# EAGLE library part ATMEGA-8 (library chuong)
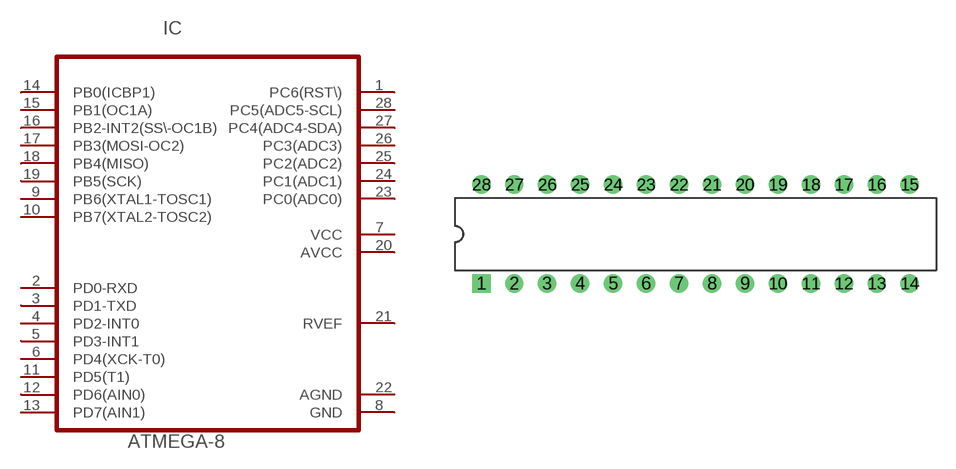
[diagram p87: symbol with the pads of DIP-28-H; footprint DIP-28-H]

Designator prefix IC

## ATMEGA-8  [DIP-28-H]
1  PC6(RST\)
2  PD0-RXD
3  PD1-TXD
4  PD2-INT0
5  PD3-INT1
6  PD4(XCK-T0)
7  VCC  pwr
8  GND  out
9  PB6(XTAL1-TOSC1)
10  PB7(XTAL2-TOSC2)
11  PD5(T1)
12  PD6(AIN0)
13  PD7(AIN1)
14  PB0(ICBP1)
15  PB1(OC1A)
16  PB2-INT2(SS\-OC1B)
17  PB3(MOSI-OC2)
18  PB4(MISO)
19  PB5(SCK)
20  AVCC  in
21  RVEF  out
22  AGND  pwr
23  PC0(ADC0)
24  PC1(ADC1)
25  PC2(ADC2)
26  PC3(ADC3)
27  PC4(ADC4-SDA)
28  PC5(ADC5-SCL)

## Footprint DIP-28-H (pad centres in mm)
drill 0.61 pad 1.422 square: 1 -15.24,-3.81
drill 0.61 pad 1.422 round: 2 -12.7,-3.81; 3 -10.16,-3.81; 4 -7.62,-3.81; 5 -5.08,-3.81; 6 -2.54,-3.81; 7 0,-3.81; 8 2.54,-3.81; 9 5.08,-3.81; 10 7.62,-3.81; 11 10.16,-3.81; 12 12.7,-3.81; 13 15.24,-3.81; 14 17.78,-3.81; 15 17.78,3.81; 16 15.24,3.81; 17 12.7,3.81; 18 10.16,3.81; 19 7.62,3.81; 20 5.08,3.81; 21 2.54,3.81; 22 0,3.81; 23 -2.54,3.81; 24 -5.08,3.81; 25 -7.62,3.81; 26 -10.16,3.81; 27 -12.7,3.81; 28 -15.24,3.81